# EAGLE library part SC1602 (library 180118 Library by matsu)
AKIZUKIDENSHI Sunlike Display Tech. Corp. SC1602BS-B http://akizukidenshi.com/download/ds/sunlike/SC1602BS-B-XA-GB-K.pdf
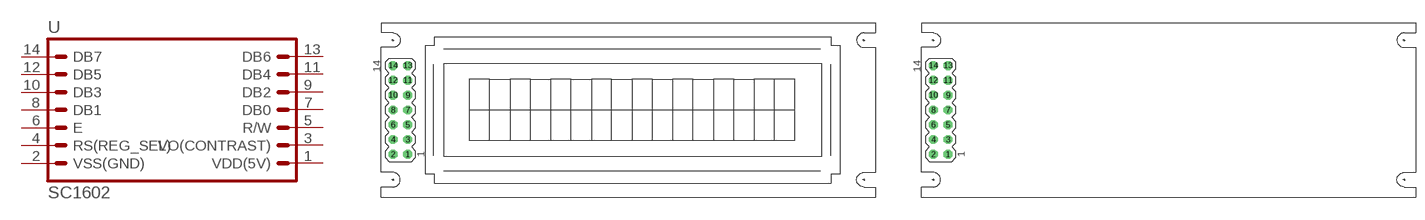
[diagram p15: symbol with the pads of SC1602; footprints SC1602, SC1602-2]

Designator prefix -

## SC1602FULL_SILK  [SC1602]
1  VDD(5V)
2  VSS(GND)
3  VO(CONTRAST)
4  RS(REG_SEL)
5  R/W
6  E
7  DB0
8  DB1
9  DB2
10  DB3
11  DB4
12  DB5
13  DB6
14  DB7

## SC1602DIMENSION_ONLY  [SC1602-2]
Pads as for SC1602

## Footprint SC1602 (pad centres in mm)
AKIZUKIDENSHI Sunlike Display Tech. Corp. SC1602BS-B
drill 1.016 octagon: 1 2.54,-7.62; 2 0,-7.62; 3 2.54,-5.08; 4 0,-5.08; 5 2.54,-2.54; 6 0,-2.54; 7 2.54,0; 8 0,0; 9 2.54,2.54; 10 0,2.54; 11 2.54,5.08; 12 0,5.08; 13 2.54,7.62; 14 0,7.62

## Footprint SC1602-2 (pad centres in mm)
drill 1.016 octagon: 1 2.54,-7.62; 2 0,-7.62; 3 2.54,-5.08; 4 0,-5.08; 5 2.54,-2.54; 6 0,-2.54; 7 2.54,0; 8 0,0; 9 2.54,2.54; 10 0,2.54; 11 2.54,5.08; 12 0,5.08; 13 2.54,7.62; 14 0,7.62